# Altium footprint library SKB10420.PcbLib: 1 footprints
Each footprint in its own frame and in the unit in brackets; x right, y up, seen from the top. Pads: shape width x height; smd on the part's side, far side on the other; paste and mask are expansions set on the pad; w line width, h text height; cw(c..) or ccw(c..) is an arc to the next point about the centre after c.
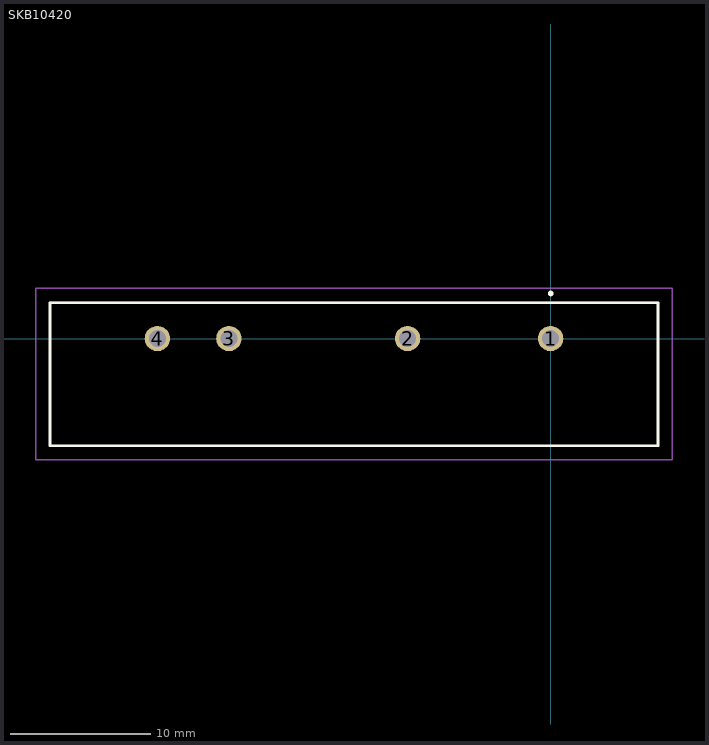
[diagram p0: the footprint, top view; thin cyan lines are the x and y axes]

## SKB10420 [mm]
pads (4):
  round 1.8 hole 1.2: 1(0,0) 2(-10.16,0) 3(-22.86,0) 4(-27.94,0)
Top Overlay:
  lines w0.2: 0,3.1 0,3.1 ; 0,3.1 ccw(c0,3.2) 0,3.3 ; 0,3.1 cw(c0,3.2) 0,3.3 ; 0,3.3 0,3.3 ; -35.57,-7.62 7.63,-7.62 7.63,2.54 -35.57,2.54 -35.57,-7.62
Mechanical 15:
  lines w0.1: -35.57,-7.62 7.63,-7.62 7.63,2.58 -35.57,2.58 -35.57,-7.62
Mechanical 20:
  lines w0.1: -36.57,-8.62 8.63,-8.62 8.63,3.58 -36.57,3.58 -36.57,-8.62